# EAGLE library part ENCODER_LED_2 (library Gadgeteer)
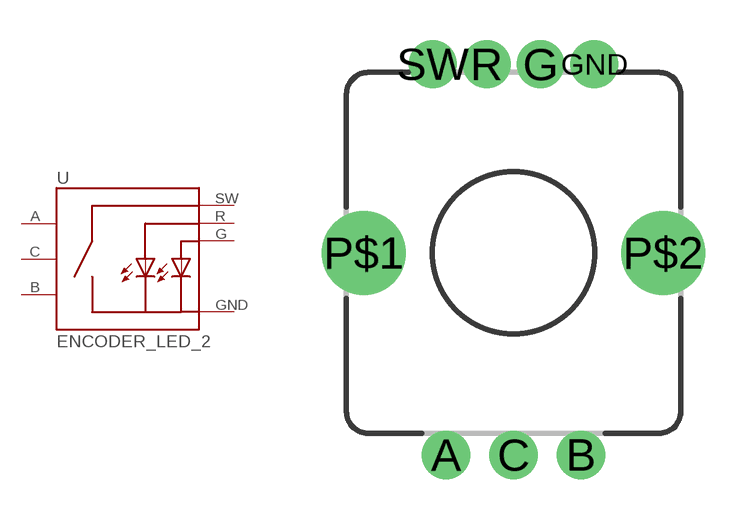
[diagram p2: symbol with the pads of R2LED; footprint R2LED]

Designator prefix -

## ENCODER_LED_2  [R2LED]
A  A
B  B
C  C
G  G
GND  GND
R  R
SW  SW

## Footprint R2LED (pad centres in mm)
drill 1.1 pad 1.8: A -2.5,-7.25; B 2.5,-7.25; C 0,-7.25
drill 1.1 pad 1.778: G 1,7.25; GND 3,7.25; R -1,7.25; SW -3,7.25
drill 2.1: P$1 -5.55,0.25; P$2 5.55,0.25